# Altium schematic symbol library E-Connectors.SchLib: 10 symbols
Pins are listed as number, name and electrical type; pins without a type are passive.

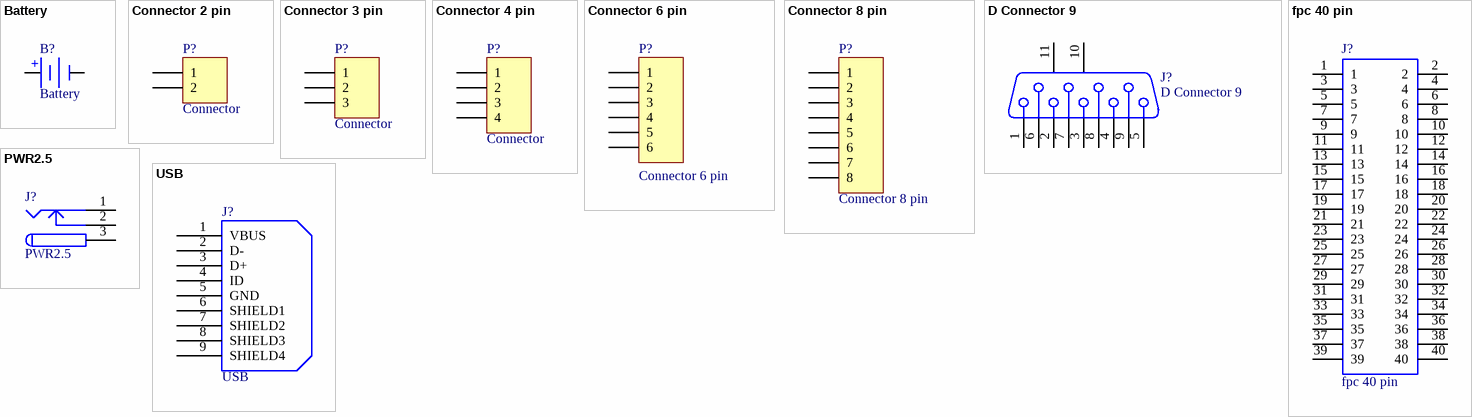
[diagram p0: symbols Battery to USB]

## Battery
designator B?
footprint 20mm Coine Battery Holder
pins: 1 +, 2 -

## Connector 2 pin
designator P?, comment Connector
Connector 2 pin; LatestRevisionDate: 17-Jul-2002; LatestRevisionNote: Re-released for DXP Platform.; Publisher: Altium Limited
footprint DS1072-2 (connfly electronic CO,.LTD.)
footprint Phoenix 2 0D (Base strip - MSTBV 2,5/ 2-G-5,08 - 1758018)
footprint Phoenix 2 90D (MSTB 2,5/2-G)
footprint DS1072-2 90deg (connfly electronic CO,.LTD.)
footprint DS1070-2 90deg (connfly electronic CO,.LTD.)
footprint 2wire (connfly electronic CO,.LTD.)
pins: 1, 2
2 alternate drawings of the same symbol

## Connector 3 pin
designator P?, comment Connector
Connector 3 pin; LatestRevisionDate: 17-Jul-2002; LatestRevisionNote: Re-released for DXP Platform.; Publisher: Altium Limited
footprint Phoenix 3 90D
footprint DS1072-3 90deg (connfly electronic CO,.LTD.)
footprint DS1070-3 90deg (Connector; Header; 3 Position)
pins: 1, 2, 3

## Connector 4 pin
designator P?, comment Connector
Connector 4 pin; LatestRevisionDate: 17-Jul-2002; LatestRevisionNote: Re-released for DXP Platform.; Publisher: Altium Limited
footprint CON4
footprint Phoenix 4 90d
footprint DS1072-4 (connfly electronic CO,.LTD.)
footprint DS1072-4 90deg (connfly electronic CO,.LTD.)
footprint DS1070-4 90deg (Connector; Header; 4 Position)
pins: 1, 2, 3, 4
2 alternate drawings of the same symbol

## Connector 6 pin
designator P?
Header, 6-Pin; LatestRevisionDate: 17-Jul-2002; LatestRevisionNote: Re-released for DXP Platform.; Publisher: Altium Limited
footprint Phoenix 6 90d
pins: 1, 2, 3, 4, 5, 6

## Connector 8 pin
designator P?
Header, 8-Pin; LatestRevisionDate: 17-Jul-2002; LatestRevisionNote: Re-released for DXP Platform.; Publisher: Altium Limited
footprint 8P
pins: 1, 2, 3, 4, 5, 6, 7, 8

## D Connector 9
designator J?
Receptacle Assembly, 9 Position, Right Angle; PackageDocument: O; Positions: 9; Published: 15-Jun-2001; LatestRevisionDate: 17-Jul-2002; LatestRevisionNote: Re-released for DXP Platform.; DatasheetDocument: 1-Sep-1999; PackageReference: 788750; Orientation: Right Angle; Gender: Receptacle
footprint DSUB1.385-2H9 (Connector; D Subminiature; 9 Position; Right Angle; Pitch 1.385 mm)
pins: 1, 2, 3, 4, 5, 6, 7, 8, 9, 10 MH1, 11 MH2

## fpc 40 pin
designator J?
OPU FPC/FFC connector lower 90deg 40 way Amphenol FCI OPU Series 0.5mm Pitch 40 Way Right Angle SMT Male FPC Connector, ZIF Bottom Contact; Manufacturer_Part_Number: 62684-401100ALF; Manufacturer_Name: FCI; RS Part Number: 7710098; RS Price/Stock: http://uk.rs-online.com/web/p/products/7710098; Arrow Part Number: 62684-401100ALF; Arrow Price/Stock: https://www.arrow.com/en/products/62684-401100alf/amphenol-fci; Datasheet Link: http://cdn.amphenol-icc.com/media/wysiwyg/files/drawing/62684.pdf
footprint FPC 40 PIN (fpc 40 pin)
pins: 1, 2, 3, 4, 5, 6, 7, 8, 9, 10, 11, 12, 13, 14, 15, 16, 17, 18, 19, 20, 21, 22, 23, 24, 25, 26, 27, 28, 29, 30, 31, 32, 33, 34, 35, 36, 37, 38, 39, 40

## PWR2.5
designator J?
Low Voltage Power Supply Connector; Published: 17-Dec-2003; DatasheetDocument: 09-May-2002; Publisher: Altium Limited; ComponentLink1Description: Manufacturer Link; ComponentLink1URL: http://domino.kycon.com/internet/Products.html
footprint POWER JACK
signal-integrity model Connector
pins: 1, 2, 3

## USB
designator J?
footprint uUSB-AB (Hirose, ZX Series, USB Micro-AB Recept-RA)
pins: 1 VBUS, 2 D-, 3 D+, 4 ID, 5 GND, 6 SHIELD1, 7 SHIELD2, 8 SHIELD3, 9 SHIELD4